# Altium footprint library CAP-V.PcbLib: 1 footprints
Each footprint in its own frame and in the unit in brackets; x right, y up, seen from the top. Pads: shape width x height; smd on the part's side, far side on the other; paste and mask are expansions set on the pad; w line width, h text height; cw(c..) or ccw(c..) is an arc to the next point about the centre after c.
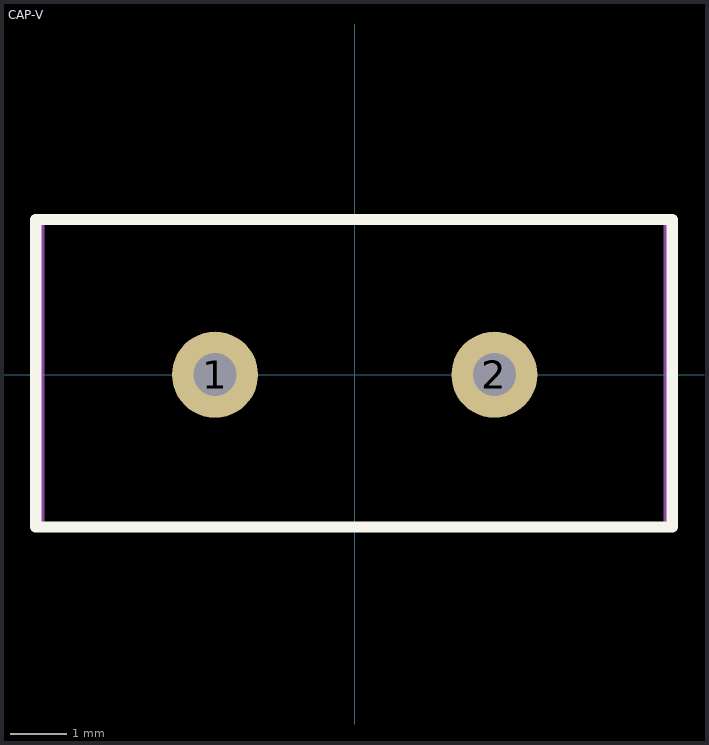
[diagram p0: the footprint, top view; thin cyan lines are the x and y axes]

## CAP-V [mil]
height 37.4
pads (2):
  round 60 hole 30: 1(-97.44,0) 2(97.44,0)
Top Overlay:
  lines w7.87: -222.44,-106.3 -222.44,108.27 221.46,108.27 221.46,-106.3 -222.44,-106.3
Top Assembly:
  lines w3.94: -218.5,-107.28 217.52,-107.28 217.52,107.28 -218.5,107.28 -218.5,-107.28
  text "'.Designator'" at -36.42,-12.8 h27.56
3D body "User Library-TDK_CAP_CK45_.STEP": height 610.08, standoff -78.74, extent -216.4,-98.43 216.37,98.43